# EAGLE library part NUTUBE_6P1 (library rezzonics)
NUTUBE 6P1 Twin Triode Datasheet <http://nutube.us/downloads/Nutube_Datasheet_31.pdf>
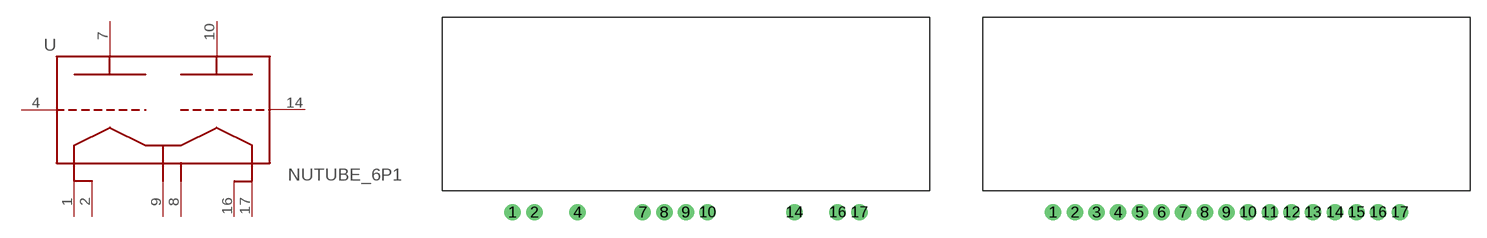
[diagram p26: symbol with the pads of NUTUBE_6P1; footprints NUTUBE_6P1, NUTUBE_6P1_1]

Designator prefix U

## NUTUBE_6P1  [NUTUBE_6P1]
1  F1_1  pas
2  F1_2  pas
4  G1_4  pas
7  A1_7  pas
8  GND_8  pwr
9  F2_9  pas
10  A2_10  pas
14  G2_14  pas
16  F3_16  pas
17  F3_17  pas

## NUTUBE_6P1_1  [NUTUBE_6P1_1]
Pads as for NUTUBE_6P1

## Footprint NUTUBE_6P1 (pad centres in mm)
NUTUBE 6P1 Twin diode Datasheet <http://nutube.us/downloads/Nutube_Datasheet_31.pdf>
drill 1: 1 -16,-4; 2 -14,-4; 4 -10,-4; 7 -4,-4; 8 -2,-4; 9 0,-4; 10 2,-4; 14 10,-4; 16 14,-4; 17 16,-4

## Footprint NUTUBE_6P1_1 (pad centres in mm)
drill 1: 1 -16,-4; 2 -14,-4; 3 -12,-4; 4 -10,-4; 5 -8,-4; 6 -6,-4; 7 -4,-4; 8 -2,-4; 9 0,-4; 10 2,-4; 11 4,-4; 12 6,-4; 13 8,-4; 14 10,-4; 15 12,-4; 16 14,-4; 17 16,-4